# Altium schematic symbol library LT3010.SchLib: 1 symbol
Pins are listed as number, name and electrical type; pins without a type are passive.

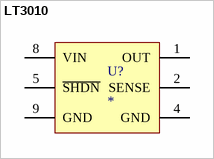
[diagram p0: symbol LT3010]

## LT3010
designator U?
Part No.: LT3010; Manufacturer: Linear Technology; Vendor: Linear; Price Est.: $2.23
footprint MSOP-8 (MS8E) (MS8E MSOP-8 Linear Technology 8-Lead PLASTIC MSOP Exposed Ground (LT3010))
pins: 1 OUT, 2 SENSE, 4 GND, 5 ~{SHDN}, 8 VIN, 9 GND